# Altium schematic symbol library PCB_BOARD.SchLib: 1 symbol
Pins are listed as number, name and electrical type; pins without a type are passive.

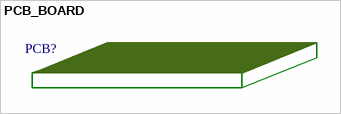
[diagram p0: symbol PCB_BOARD]

## PCB_BOARD
designator PCB?  (value not drawn)
PCB Board Generic Symbol for BOM